# Altium schematic symbol library ESD5B5P0ST1G.SchLib: 1 symbol
Pins are listed as number, name and electrical type; pins without a type are passive.

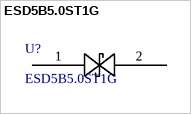
[diagram p0: symbol ESD5B5.0ST1G]

## ESD5B5.0ST1G
designator U?
Description; Manufacturer_Name: onsemi; Copyright: Copyright (C) 2025 Ultra Librarian. All rights reserved.; Manufacturer_Part_Number: ESD5B5.0ST1G; RefDes: RefDes; Type: Type
footprint SOD523_502_ONS
pins: 1, 2